# EAGLE library part SILICON_LABS_C8051F350_QFN28 (library 3D_MIG_Controller)
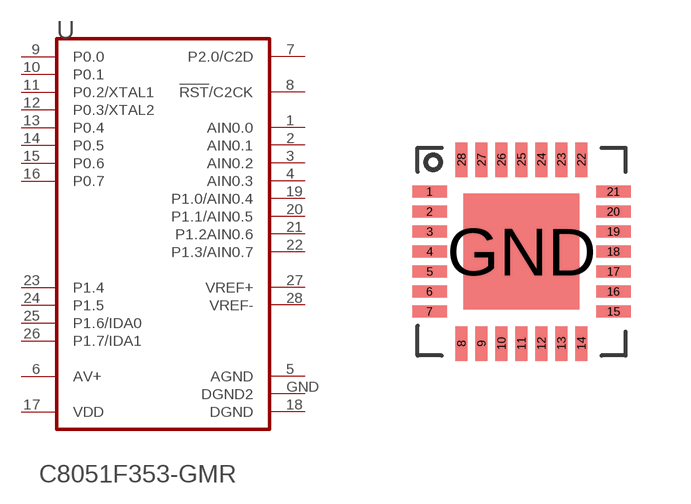
[diagram p69: symbol with the pads of QFN-28; footprint QFN-28]

Designator prefix -

## SILICON_LABS_C8051F350_QFN28  [QFN-28]
1  AIN0.0  in
2  AIN0.1  in
3  AIN0.2  in
4  AIN0.3  in
5  AGND  pwr
6  AV+  pwr
7  P2.0/C2D
8  !RST!/C2CK
9  P0.0
10  P0.1
11  P0.2/XTAL1
12  P0.3/XTAL2
13  P0.4
14  P0.5
15  P0.6
16  P0.7
17  VDD  pwr
18  DGND  pwr
19  P1.0/AIN0.4  in
20  P1.1/AIN0.5  in
21  P1.2AIN0.6  in
22  P1.3/AIN0.7  in
23  P1.4
24  P1.5
25  P1.6/IDA0
26  P1.7/IDA1
27  VREF+
28  VREF-
GND  DGND2

## Footprint QFN-28 (pad centres in mm)
smd 0.864 x 0.305: 1 -2.3,1.5; 2 -2.3,1; 3 -2.3,0.5; 4 -2.3,0; 5 -2.3,-0.5; 6 -2.3,-1; 7 -2.3,-1.5; 15 2.3,-1.5; 16 2.3,-1; 17 2.3,-0.5; 18 2.3,0; 19 2.3,0.5; 20 2.3,1; 21 2.3,1.5
smd 0.305 x 0.864: 8 -1.5,-2.3; 9 -1,-2.3; 10 -0.5,-2.3; 11 0,-2.3; 12 0.5,-2.3; 13 1,-2.3; 14 1.5,-2.3; 22 1.5,2.3; 23 1,2.3; 24 0.5,2.3; 25 0,2.3; 26 -0.5,2.3; 27 -1,2.3; 28 -1.5,2.3
smd 2.9 x 2.9: GND 0,0